# Altium footprint library SHT21.PcbLib: 1 footprints
Each footprint in its own frame and in the unit in brackets; x right, y up, seen from the top. Pads: shape width x height; smd on the part's side, far side on the other; paste and mask are expansions set on the pad; w line width, h text height; cw(c..) or ccw(c..) is an arc to the next point about the centre after c.
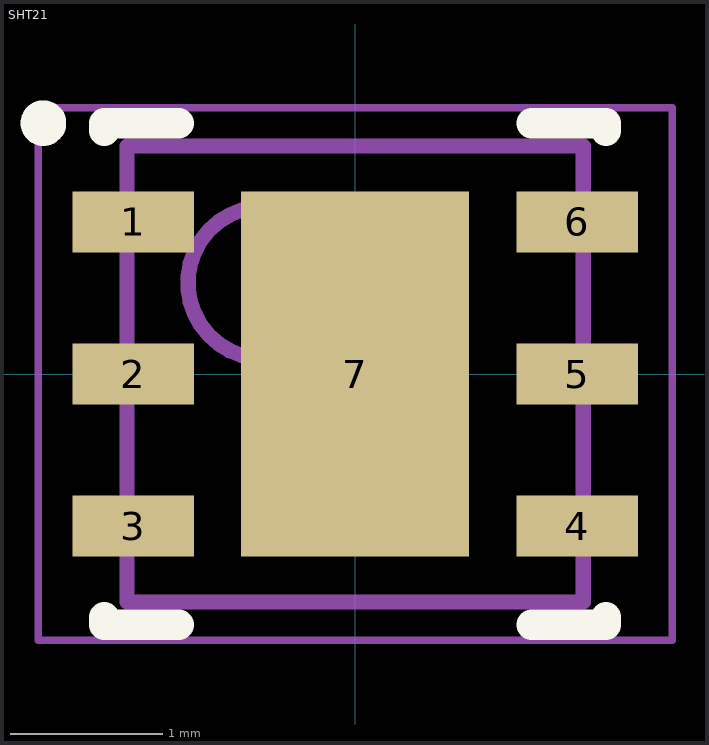
[diagram p0: the footprint, top view; thin cyan lines are the x and y axes]

## SHT21 [mm] "SON, 6-Leads, Body 3.00x3.00mm, Pitch 1.00mm, Thermal Pad 2.40x1.50mm, IPC Medium Density"
height 1.1
pads (7):
  rect 0.8x0.4 smd: 1(-1.46,1) 2(-1.46,0) 3(-1.46,-1) 4(1.46,-1) 5(1.46,0) 6(1.46,1)
  rect 1.5x2.4 smd: 7(0,0)
Top Overlay:
  circle w0.2: c-2.05,1.65 r0.05
  lines w0.2: -1.65,-1.6 -1.65,-1.65 -1.16,-1.65 ; -1.65,1.6 -1.65,1.65 -1.16,1.65 ; 1.16,-1.65 1.65,-1.65 1.65,-1.6 ; 1.16,1.65 1.65,1.65 1.65,1.6
Mechanical 13:
  circle w0.1: c-0.6,0.6 r0.5
  lines w0.1: -1.5,-1.5 1.5,-1.5 1.5,1.5 -1.5,1.5 -1.5,-1.5
Mechanical 15:
  lines w0.05: -2.085,-1.75 2.085,-1.75 2.085,1.75 -2.085,1.75 -2.085,-1.75
  lines w0.1: -0.5,0 0.5,0 ; 0,-0.5 0,0.5
3D body "User Library-sensore_SHT21.step": height 1.1, standoff -0.02, extent -1.51,-1.5 1.51,1.5